# Altium footprint library LM27762DSSR.PCBLIB: 1 footprints
Each footprint in its own frame and in the unit in brackets; x right, y up, seen from the top. Pads: shape width x height; smd on the part's side, far side on the other; paste and mask are expansions set on the pad; w line width, h text height; cw(c..) or ccw(c..) is an arc to the next point about the centre after c.
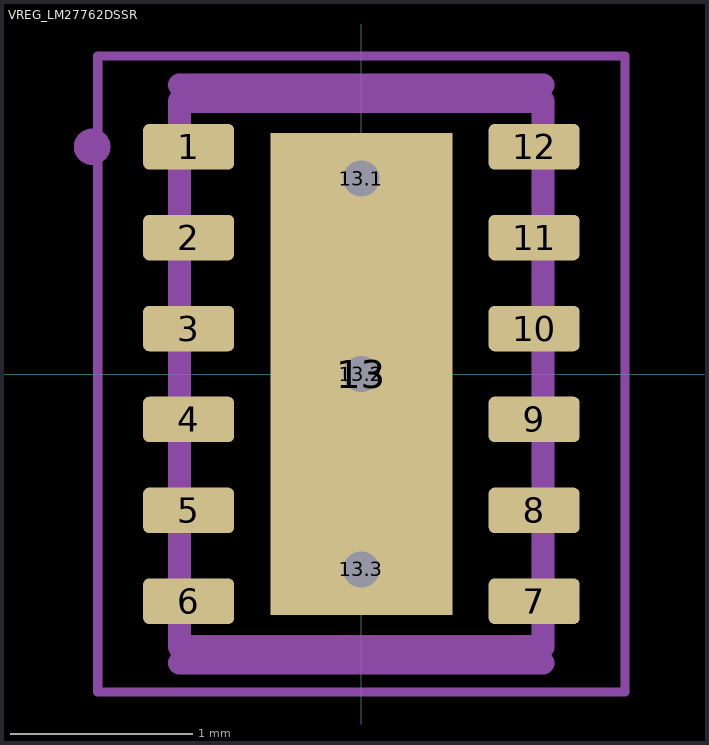
[diagram p0: the footprint, top view; thin cyan lines are the x and y axes]

## VREG_LM27762DSSR [mm]
pads (16):
  rrect25% 0.5x0.25 smd: 1(-0.95,1.25) 2(-0.95,0.75) 3(-0.95,0.25) 4(-0.95,-0.25) 5(-0.95,-0.75) 6(-0.95,-1.25) 7(0.95,-1.25) 8(0.95,-0.75) 9(0.95,-0.25) 10(0.95,0.25) 11(0.95,0.75) 12(0.95,1.25)
  rect 1x2.65 smd paste+0: 13(0,0)
  round 0.35 / inner round 1.524 / far side round 0.35 hole 0.2: 13.1(0,1.075) 13.2(0,0) 13.3(0,-1.075)
Top Paste:
  region: -0.475,-1.271 -0.475,-0.1 0.475,-0.1 0.475,-1.271
  region: -0.475,0.1 -0.475,1.27 0.475,1.27 0.475,0.1
Assembly Top:
  lines w0.127: -1,-1.5 1,-1.5 1,1.5 -1,1.5 -1,-1.5
Mechanical 22:
  circle w0.1: c-1.481,1.25 r0.05
  lines w0.127: -1,-1.59 1,-1.59 ; -1,1.59 1,1.59
Mechanical 30:
  lines w0.05: -1.45,-1.75 1.45,-1.75 1.45,1.75 -1.45,1.75 -1.45,-1.75